# EAGLE library part SD_MMC_CARD_BREAKOUT (library Sparkfun)
SD/MMC Card Breakout SD/MMC Card Breakout Further information:https://www.sparkfun.com/products/12941 Cost:$9.95
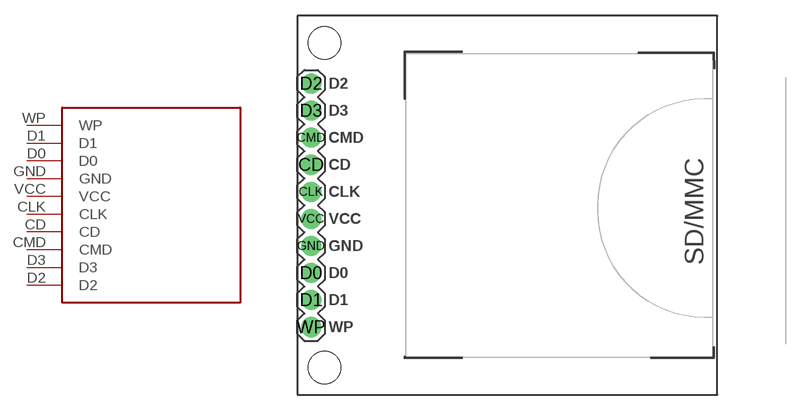
[diagram p1: symbol with the pads of SD_MMC_CARD_BREAKOUT; footprint SD_MMC_CARD_BREAKOUT]

Designator prefix -

## SD_MMC_CARD_BREAKOUT-BOB  [SD_MMC_CARD_BREAKOUT]
CD  CD
CLK  CLK
CMD  CMD
D0  D0
D1  D1
D2  D2
D3  D3
GND  GND
VCC  VCC
WP  WP

## Footprint SD_MMC_CARD_BREAKOUT (pad centres in mm)
Stand Off This is the mechanical footprint for a #4 phillips button head screw. Use the keepout ring to avoid running the screw head into surrounding components. SKU : PRT-00447
drill 1.016 pad 1.88: CD 1.27,20.32; CLK 1.27,17.78; CMD 1.27,22.86; D0 1.27,10.16; D1 1.27,7.62; D2 1.27,27.94; D3 1.27,25.4; GND 1.27,12.7; VCC 1.27,15.24; WP 1.27,5.08
hole 3.048 at 2.54,1.27
hole 3.048 at 2.54,31.75